# Altium schematic symbol library Dip Switch.SchLib: 12 symbols
Pins are listed as number, name and electrical type; pins without a type are passive.

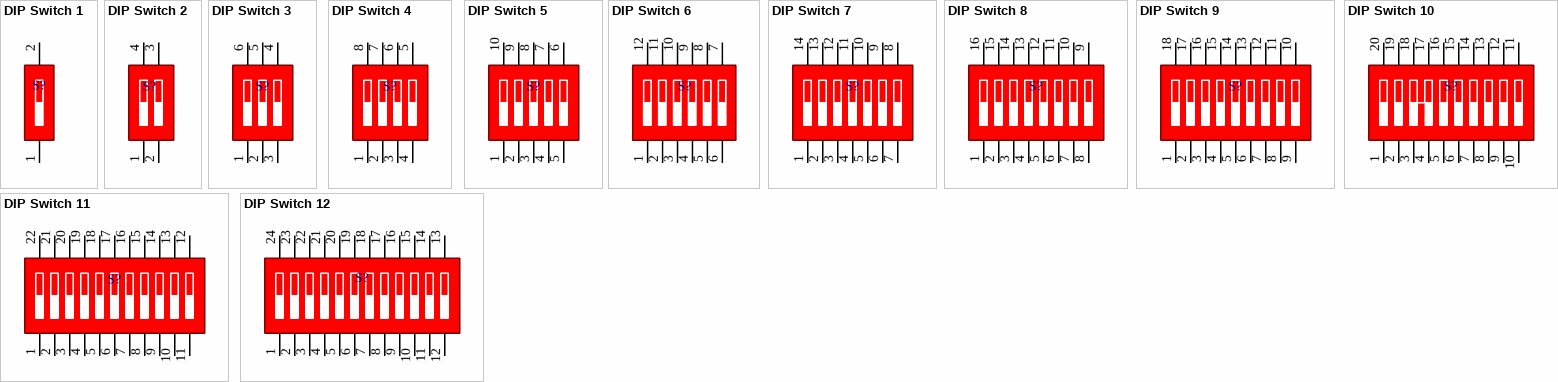
[diagram p0: symbols DIP Switch 1 to DIP Switch 12]

## DIP Switch 1
designator S?
12 BIT DIP Switch; DatasheetVersion: 2022
footprint dip switch 1 Black SMD (SWITCH DIP 12POS, THD, 2.54mm)
footprint dip switch 1 Red THD (SWITCH DIP 12POS, THD, 2.54mm)
pins: 1, 2

## DIP Switch 2
designator S?
2 BIT DIP Switch; DatasheetVersion: 2022
footprint dip switch 2 Black SMD (SWITCH DIP 2POS, SMD, 1.27mm, 6.1X2.4mm  TDA series)
footprint dip switch 2 Blue Right THD
footprint dip switch 2 Red 2 THD
footprint dip switch 2 Red Right THD
footprint dip switch 2 Red THD
pins: 1, 2, 3, 4

## DIP Switch 3
designator S?
3 BIT DIP Switch; DatasheetVersion: 2022
footprint dip switch 3 Blue THD
footprint dip switch 3 Red 2 THD
footprint dip switch 3 Red Right THD
pins: 1, 2, 3, 4, 5, 6

## DIP Switch 4
designator S?
4 BIT DIP Switch; DatasheetVersion: 2022
footprint dip switch 4 Black 2 SMD (SWITCH DIP 4POS, SMD, 2.54mm, CTS-219-04)
footprint dip switch 4 Black SMD (SWITCH DIP 4POS, SMD, 1.27mm, 6.1X6.2mm , TDA series)
footprint dip switch 4 Blue  SMD (SWITCH DIP 4POS, SMD, 2.54mm, CTS-219-04)
footprint dip switch 4  Blue THD (SWITCH DIP 4POS, THD, 2.54mm, YL04)
footprint dip switch 4 Red 2 THD
footprint dip switch 4 Red Right THD
footprint dip switch 4 Red THD
pins: 1, 2, 3, 4, 5, 6, 7, 8

## DIP Switch 5
designator S?
5 BIT DIP Switch; DatasheetVersion: 2022
footprint dip switch 5 Blue THD
footprint dip switch 5 Red THD
pins: 1, 2, 3, 4, 5, 6, 7, 8, 9, 10

## DIP Switch 6
designator S?
6 BIT DIP Switch; DatasheetVersion: 2022
footprint dip switch 6 Blue THD
footprint dip switch 6 Red Right THD
footprint dip switch 6 Red THD
footprint dip switch 6 Black SMD (SWITCH DIP 6POS, SMD, 1.27mm, 6.1X6.2mm , TDA series)
pins: 1, 2, 3, 4, 5, 6, 7, 8, 9, 10, 11, 12

## DIP Switch 7
designator S?
7 BIT DIP Switch; DatasheetVersion: 2022
footprint dip switch 7 Red Right THD
footprint dip switch 7 Red THD
pins: 1, 2, 3, 4, 5, 6, 7, 8 18, 9, 10, 11, 12, 13, 14

## DIP Switch 8
designator S?
8 BIT DIP Switch; DatasheetVersion: 2022
footprint dip switch 8 Black SMD (SWITCH DIP 8POS, SMD, 1.27mm, 6.1X11.3mm , TDA series)
footprint dip switch 8 Blue Right THD
footprint dip switch 8 Blue THD (SWITCH DIP 8POS, THD, 2.54mm,)
footprint dip switch 8 Red 2 THD
footprint dip switch 8 Red Right THD (SWITCH DIP 8POS, THD, 2.54mm)
pins: 1, 2, 3, 4, 5, 6, 7, 8, 9, 10, 11, 12, 13, 14, 15, 16

## DIP Switch 9
designator S?
9 BIT DIP Switch; DatasheetVersion: 2022
footprint dip switch 9 Red 2 THD
pins: 1, 2, 3, 4, 5, 6, 7, 8, 9, 10, 11, 12, 13, 14, 15, 16, 17, 18

## DIP Switch 10
designator S?
10 BIT DIP Switch; DatasheetVersion: 2022
footprint dip switch 10 Black SMD (SWITCH DIP 10POS, SMD, 1.27mm, 6.1X13.8mm)
footprint dip switch 10 Blue 2 THD
footprint dip switch 10 Red 2 THD
footprint dip switch 10 Red Right THD
pins: 1, 2, 3, 4, 5, 6, 7, 8, 9, 10, 11, 12, 13, 14, 15, 16, 17, 18, 19, 20

## DIP Switch 11
designator S?
11 BIT DIP Switch; DatasheetVersion: 2022
footprint dip switch 11 Red 2 THD
pins: 1, 2, 3, 4, 5, 6, 7, 8, 9, 10, 11, 12, 13, 14, 15, 16, 17, 18, 19, 20, 21, 22

## DIP Switch 12
designator S?
12 BIT DIP Switch; DatasheetVersion: 2022
footprint dip switch 12 Blue THD
footprint dip switch 12 Red 2 THD
footprint dip switch 12 Red THD (SWITCH DIP 12POS, THD, 2.54mm)
pins: 1, 2, 3, 4, 5, 6, 7, 8, 9, 10, 11, 12, 13, 14, 15, 16, 17, 18, 19, 20, 21, 22, 23, 24